# Altium schematic symbol library RSX_Switches.SchLib: 3 symbols
Pins are listed as number, name and electrical type; pins without a type are passive.

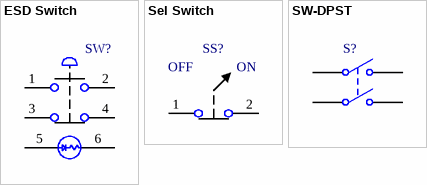
[diagram p0: symbols ESD Switch to SW-DPST]

## ESD Switch
designator SW?, comment NO-NC ESD with light  (value not drawn)
pins: 1, 2, 3, 4, 5, 6

## Sel Switch
designator SS?
pins: 1, 2
text: OFF; ON

## SW-DPST
designator S?
Double-Pole, Single-Throw Switch; Published: 24-Mar-1999; LatestRevisionDate: 17-Jul-2002; LatestRevisionNote: Re-released for DXP Platform.; PackageReference: DPST-4; Publisher: Altium Limited; PackageDescription: Switch; 4 Leads
footprint DPST-4 (Switch; 4 Leads)
pins: 1 COMMON1, 2 NO1, 3 COMMON2, 4 NO2